# Altium footprint library Swithces.PcbLib: 3 footprints
Each footprint in its own frame and in the unit in brackets; x right, y up, seen from the top. Pads: shape width x height; smd on the part's side, far side on the other; paste and mask are expansions set on the pad; w line width, h text height; cw(c..) or ccw(c..) is an arc to the next point about the centre after c.
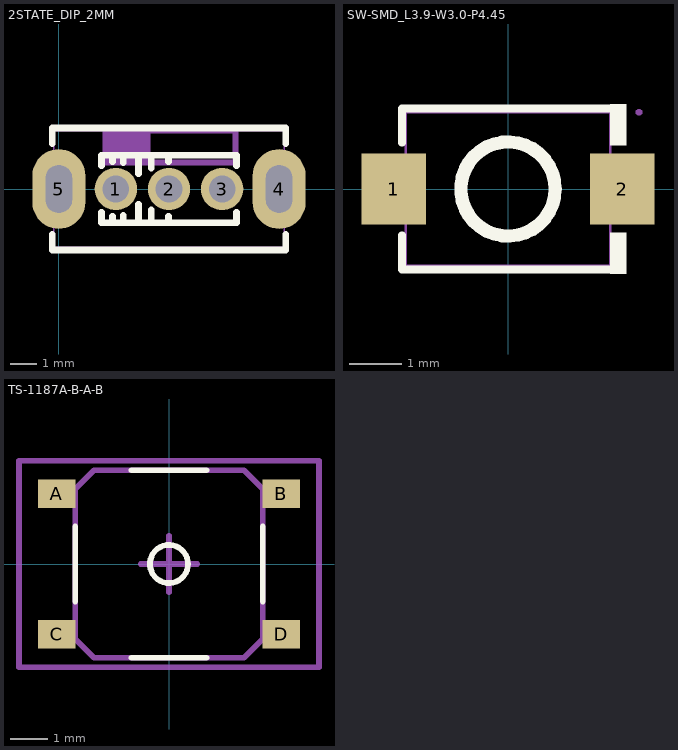
[diagram p0: the footprints below, top view; thin cyan lines are the x and y axes]

## 2STATE_DIP_2MM [mm]
pads (5):
  round 1.6 hole 1: 1(2.15,0) 2(4.15,0) 3(6.15,0)
  oval 2x3 hole 1 slot 1.8 at 90 deg: 4(8.3,0) 5(0,0)
Top Overlay:
  lines w0.254: -0.25,-1.715 -0.25,-2.3 8.55,-2.3 8.55,-1.715 ; -0.25,1.715 -0.25,2.3 8.55,2.3 8.55,1.715 ; 1.61,-0.878 1.61,-1.27 6.69,-1.27 6.69,-0.878 ; 1.61,0.878 1.61,1.27 6.69,1.27 6.69,0.878 ; 2.026,-1.27 2.026,-1.024 ; 2.026,1.024 2.026,1.27 ; 2.425,-1.27 2.425,-0.994 ; 2.425,0.994 2.425,1.27 ; 3.006,-1.27 3.006,-0.573 ; 3.006,0.573 3.006,1.27 ; 3.477,-1.27 3.477,-0.781 ; 3.477,0.781 3.477,1.27 ; 4.13,-1.27 4.13,-1.031 ; 4.13,1.031 4.13,1.27
Mechanical 6:
  region: 1.65,2.3 1.65,0.9 6.65,0.9 6.75,0.9 6.75,1 6.75,2.3 6.55,2.3 6.55,1.1 3.45,1.1 3.45,2.3
  region: 3.45,2.1 3.45,2.3 6.55,2.3 6.55,2.1
Mechanical 15:
  region: -0.14,-2.2 -0.14,-2.175 -0.175,-2.14 -0.225,-2.14 -0.26,-2.175 -0.26,-2.2 -0.26,-2.225 -0.225,-2.26 -0.175,-2.26 -0.14,-2.225
  region: 4.4,0.15 4.4,-0.15 3.9,-0.15 3.9,0.15
  region: 6.4,0.15 6.4,-0.15 5.9,-0.15 5.9,0.15
  region: 2.4,0.15 2.4,-0.15 1.9,-0.15 1.9,0.15
  region: -0.2,-0.6 -0.2,0.6 0.2,0.6 0.2,-0.6
  region: 8.1,-0.6 8.1,0.6 8.5,0.6 8.5,-0.6
  lines w0.051: -0.2,-2.2 -0.2,2.2 8.5,2.2 8.5,-2.2 -0.2,-2.2

## SW-SMD_L3.9-W3.0-P4.45 [mm]
pads (2):
  rect 1.23x1.36 smd: 1(-2.185,0) 2(2.185,0)
Top Overlay:
  circle w0.254: c0,0 r0.9
  region: 1.95,1.617 1.95,0.832 2.255,0.832 2.255,1.617
  region: 1.95,-1.617 1.95,-0.832 2.255,-0.832 2.255,-1.617
  lines w0.152: -2.026,-0.883 -2.026,-1.541 2.026,-1.541 ; -2.026,0.883 -2.026,1.541 2.026,1.541
Mechanical 15:
  region: -2.5,0.65 -2.5,-0.65 -1.6,-0.65 -1.6,0.65
  region: 2.5,0.65 2.5,-0.65 1.6,-0.65 1.6,0.65
  region: 2.56,1.465 2.56,1.49 2.525,1.525 2.475,1.525 2.44,1.49 2.44,1.465 2.44,1.44 2.475,1.405 2.525,1.405 2.56,1.44 2.56,1.465
  lines w0.051: -1.95,-1.465 -1.95,1.465 1.95,1.465 1.95,-1.465 -1.95,-1.465

## TS-1187A-B-A-B [mm]
pads (4):
  rect 1x0.75 smd: A(-3,1.875) B(3,1.875) C(-3,-1.875) D(3,-1.875)
Top Overlay:
  circle w0.152: c0,0 r0.508
  lines w0.152: -2.5,-1 -2.5,0 -2.5,1 ; -1,-2.5 0,-2.5 1,-2.5 ; -1,2.5 0,2.5 1,2.5 ; 2.5,-1 2.5,0 2.5,1
Mechanical 13:
  lines w0.152: -2.5,-2 -2,-2.5 0,-2.5 2,-2.5 2.5,-2 2.5,0 2.5,2 2,2.5 0,2.5 -2,2.5 -2.5,2 -2.5,0 -2.5,-2
Mechanical 15:
  lines w0.152: -0.75,0 0.75,0 ; 0,-0.75 0,0.75 ; -4,-2.75 0,-2.75 4,-2.75 4,0 4,2.75 0,2.75 -4,2.75 -4,0 -4,-2.75
3D body "Tactile_SMD_5x5mm.STEP": height 1.52, standoff 0, extent -3.25,-2.54 3.25,2.54